# EAGLE library part LPCXPRESSO_LPC1227 (library debauer_modules)
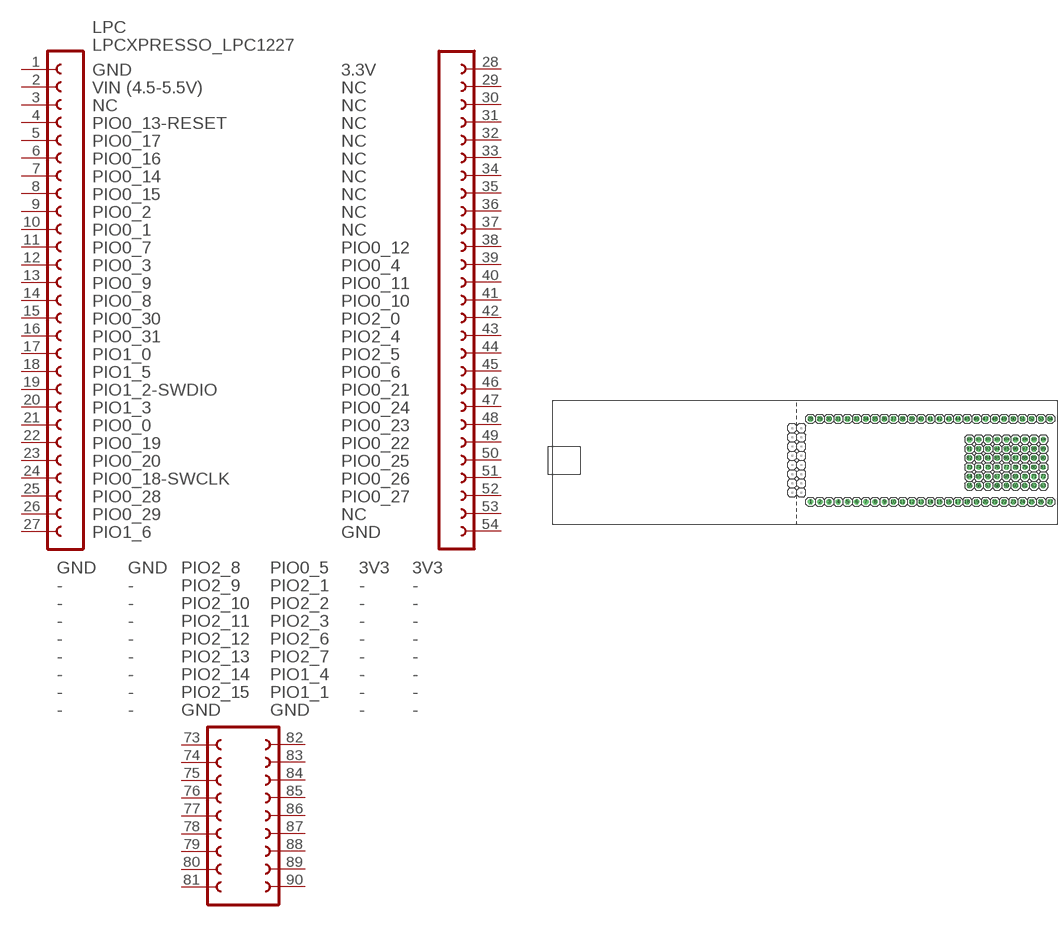
[diagram p18: symbol with the pads of LPCXPRESSO_LPC1114; footprint LPCXPRESSO_LPC1114]

Designator prefix LPC

## LPCXPRESSO_LPC1227  [LPCXPRESSO_LPC1114]
1  1  pas
2  2  pas
3  3  pas
4  4  pas
5  5  pas
6  6  pas
7  7  pas
8  8  pas
9  9  pas
10  10  pas
11  11  pas
12  12  pas
13  13  pas
14  14  pas
15  15  pas
16  16  pas
17  17  pas
18  18  pas
19  19  pas
20  20  pas
21  21  pas
22  22  pas
23  23  pas
24  24  pas
25  25  pas
26  26  pas
27  27  pas
28  28  pas
29  29  pas
30  30  pas
31  31  pas
32  32  pas
33  33  pas
34  34  pas
35  35  pas
36  36  pas
37  37  pas
38  38  pas
39  39  pas
40  40  pas
41  41  pas
42  42  pas
43  43  pas
44  44  pas
45  45  pas
46  46  pas
47  47  pas
48  48  pas
49  49  pas
50  50  pas
51  51  pas
52  52  pas
53  53  pas
54  54  pas
73  55  pas
74  56  pas
75  57  pas
76  58  pas
77  59  pas
78  60  pas
79  61  pas
80  62  pas
81  63  pas
82  64  pas
83  65  pas
84  66  pas
85  67  pas
86  68  pas
87  69  pas
88  70  pas
89  71  pas
90  72  pas

## Footprint LPCXPRESSO_LPC1114 (pad centres in mm)
drill 1 octagon: 1 33.655,-5.715; 2 36.195,-5.715; 3 38.735,-5.715; 4 41.275,-5.715; 5 43.815,-5.715; 6 46.355,-5.715; 7 48.895,-5.715; 8 51.435,-5.715; 9 53.975,-5.715; 10 56.515,-5.715; 11 59.055,-5.715; 12 61.595,-5.715; 13 64.135,-5.715; 14 66.675,-5.715; 15 69.215,-5.715; 16 71.755,-5.715; 17 74.295,-5.715; 18 76.835,-5.715; 19 79.375,-5.715; 20 81.915,-5.715; 21 84.455,-5.715; 22 86.995,-5.715; 23 89.535,-5.715; 24 92.075,-5.715; 25 94.615,-5.715; 26 97.155,-5.715; 27 99.695,-5.715; 28 33.655,17.145; 29 36.195,17.145; 30 38.735,17.145; 31 41.275,17.145; 32 43.815,17.145; 33 46.355,17.145; 34 48.895,17.145; 35 51.435,17.145; 36 53.975,17.145; 37 56.515,17.145; 38 59.055,17.145; 39 61.595,17.145; 40 64.135,17.145; 41 66.675,17.145; 42 69.215,17.145; 43 71.755,17.145; 44 74.295,17.145; 45 76.835,17.145; 46 79.375,17.145; 47 81.915,17.145; 48 84.455,17.145; 49 86.995,17.145; 50 89.535,17.145; 51 92.075,17.145; 52 94.615,17.145; 53 97.155,17.145; 54 99.695,17.145; 55 77.47,-1.27; 56 80.01,-1.27; 57 82.55,-1.27; 58 85.09,-1.27; 59 87.63,-1.27; 60 90.17,-1.27; 61 92.71,-1.27; 62 95.25,-1.27; 63 97.79,-1.27; 64 77.47,1.27; 65 80.01,1.27; 66 82.55,1.27; 67 85.09,1.27; 68 87.63,1.27; 69 90.17,1.27; 70 92.71,1.27; 71 95.25,1.27; 72 97.79,1.27; 73 77.47,3.81; 74 80.01,3.81; 75 82.55,3.81; 76 85.09,3.81; 77 87.63,3.81; 78 90.17,3.81; 79 92.71,3.81; 80 95.25,3.81; 81 97.79,3.81; 82 77.47,6.35; 83 80.01,6.35; 84 82.55,6.35; 85 85.09,6.35; 86 87.63,6.35; 87 90.17,6.35; 88 92.71,6.35; 89 95.25,6.35; 90 97.79,6.35; 91 77.47,8.89; 92 80.01,8.89; 93 82.55,8.89; 94 85.09,8.89; 95 87.63,8.89; 96 90.17,8.89; 97 92.71,8.89; 98 95.25,8.89; 99 97.79,8.89; 100 77.47,11.43; 101 80.01,11.43; 102 82.55,11.43; 103 85.09,11.43; 104 87.63,11.43; 105 90.17,11.43; 106 92.71,11.43; 107 95.25,11.43; 108 97.79,11.43